# Altium schematic symbol library PA_RFMD_RFPA3800.SchLib: 1 symbol
Pins are listed as number, name and electrical type; pins without a type are passive.

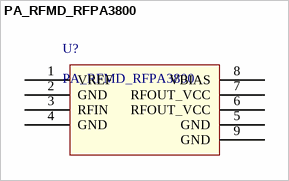
[diagram p0: symbol PA_RFMD_RFPA3800]

## PA_RFMD_RFPA3800
designator U?
GaAs HBT 150MHz TO 960MHz POWER  AMPLIFIER,Package: SOIC-8
pins: 1 VREF, 2 GND, 3 RFIN, 4 GND, 5 GND, 6 RFOUT_VCC, 7 RFOUT_VCC, 8 VBIAS, 9 GND